# EAGLE library part PINHD-1X10 (library pinhead-2x23)
PIN HEADER
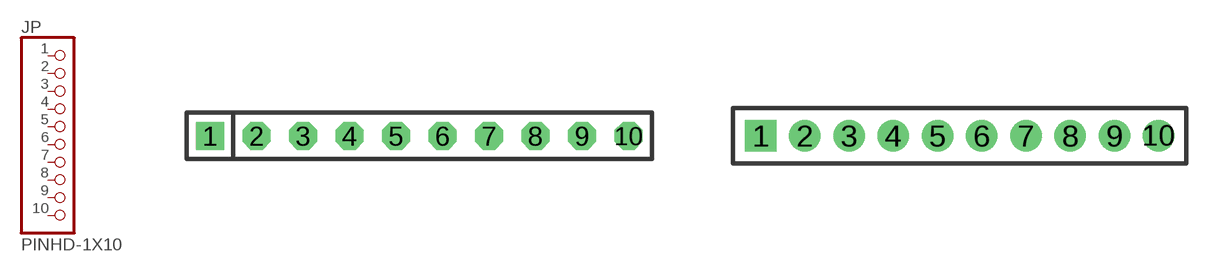
[diagram p1: symbol with the pads of 1X10; footprints 1X10, 1X10M]

Designator prefix JP

## PINHD-1X10  [1X10]
1  1  pas
2  2  pas
3  3  pas
4  4  pas
5  5  pas
6  6  pas
7  7  pas
8  8  pas
9  9  pas
10  10  pas

## PINHD-1X10M  [1X10M]
Pads as for 1X10

## Footprint 1X10 (pad centres in mm)
PIN HEADER - 0.1"
drill 1.016 square: 1 -11.43,0
drill 1.016 octagon: 2 -8.89,0; 3 -6.35,0; 4 -3.81,0; 5 -1.27,0; 6 1.27,0; 7 3.81,0; 8 6.35,0; 9 8.89,0; 10 11.43,0

## Footprint 1X10M (pad centres in mm)
PIN HEADER - 2MM"
drill 0.914 square: 1 -9,0
drill 0.914: 2 -7,0; 3 -5,0; 4 -3,0; 5 -1,0; 6 1,0; 7 3,0; 8 5,0; 9 7,0; 10 9,0